# Altium schematic symbol library copper_suicide.SchLib: 6 symbols
Pins are listed as number, name and electrical type; pins without a type are passive.

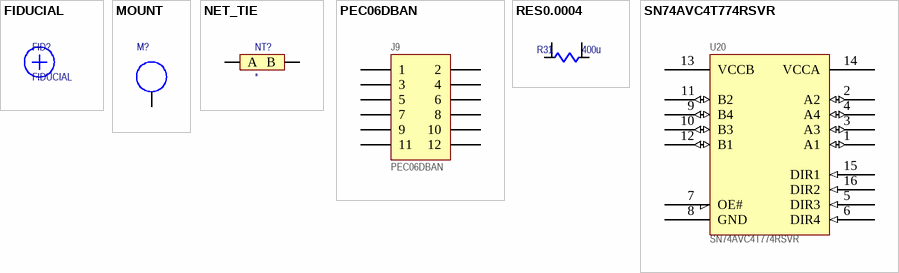
[diagram p0: symbols FIDUCIAL to SN74AVC4T774RSVR]

## FIDUCIAL
designator FID?  (no BOM)
footprint FIDUCIAL (PCBA Fiducual Mark)

## MOUNT
designator M?  (value not drawn)  (no BOM)
M3 Standard Fit Hole; Manufacturer: *; Manufacturer P/N: *
footprint MOUNTM3 (M3 Standard Fit Hole)
pins: 1 MNT

## NET_TIE
designator NT?  (net tie, no BOM)
footprint NET_TIE
pins: A, B

## PEC06DBAN
designator J9
Header, 6-Pin, Dual row, Right Angle; Manufacturer: Sullins; Manufacturer P/N: PEC06DBAN
footprint PEC06DBAN (Footprint not found)
signal-integrity model Connector
pins: 1, 2, 3, 4, 5, 6, 7, 8, 9, 10, 11, 12

## RES0.0004
designator R31  value 400u  (hidden comment: RES0.0004)
Current Sense Resistor 400uOhm TRACE; Manufacturer: *; Manufacturer P/N: *
footprint RES0.0004 (PCB Trace Resistor (for 2oz. copper))
footprint RESC3216N-1206 (Chip Resistor, Body 3.2x1.6mm, IPC Medium Density)
pins: 1, 2, 3, 4

## SN74AVC4T774RSVR
designator U20
4-Bit Dual-Supply Bus Transceiver; Manufacturer: Texas Instruments; Manufacturer P/N: SN74AVC4T774RSVR
footprint RSV (QFN, 16-Leads, Body 1.9x2.7mm (max), Pitch 0.40mm, IPC High Density)
pins: 1 A1 (io), 2 A2 (io), 3 A3 (io), 4 A4 (io), 5 DIR3 (in), 6 DIR4 (in), 7 OE#, 8 GND (power), 9 B4 (io), 10 B3 (io), 11 B2 (io), 12 B1 (io), 13 VCCB (power), 14 VCCA (power), 15 DIR1 (in), 16 DIR2 (in)